# Altium integrated library JLC_25.IntLib: 165 symbols (part 2 of 2)
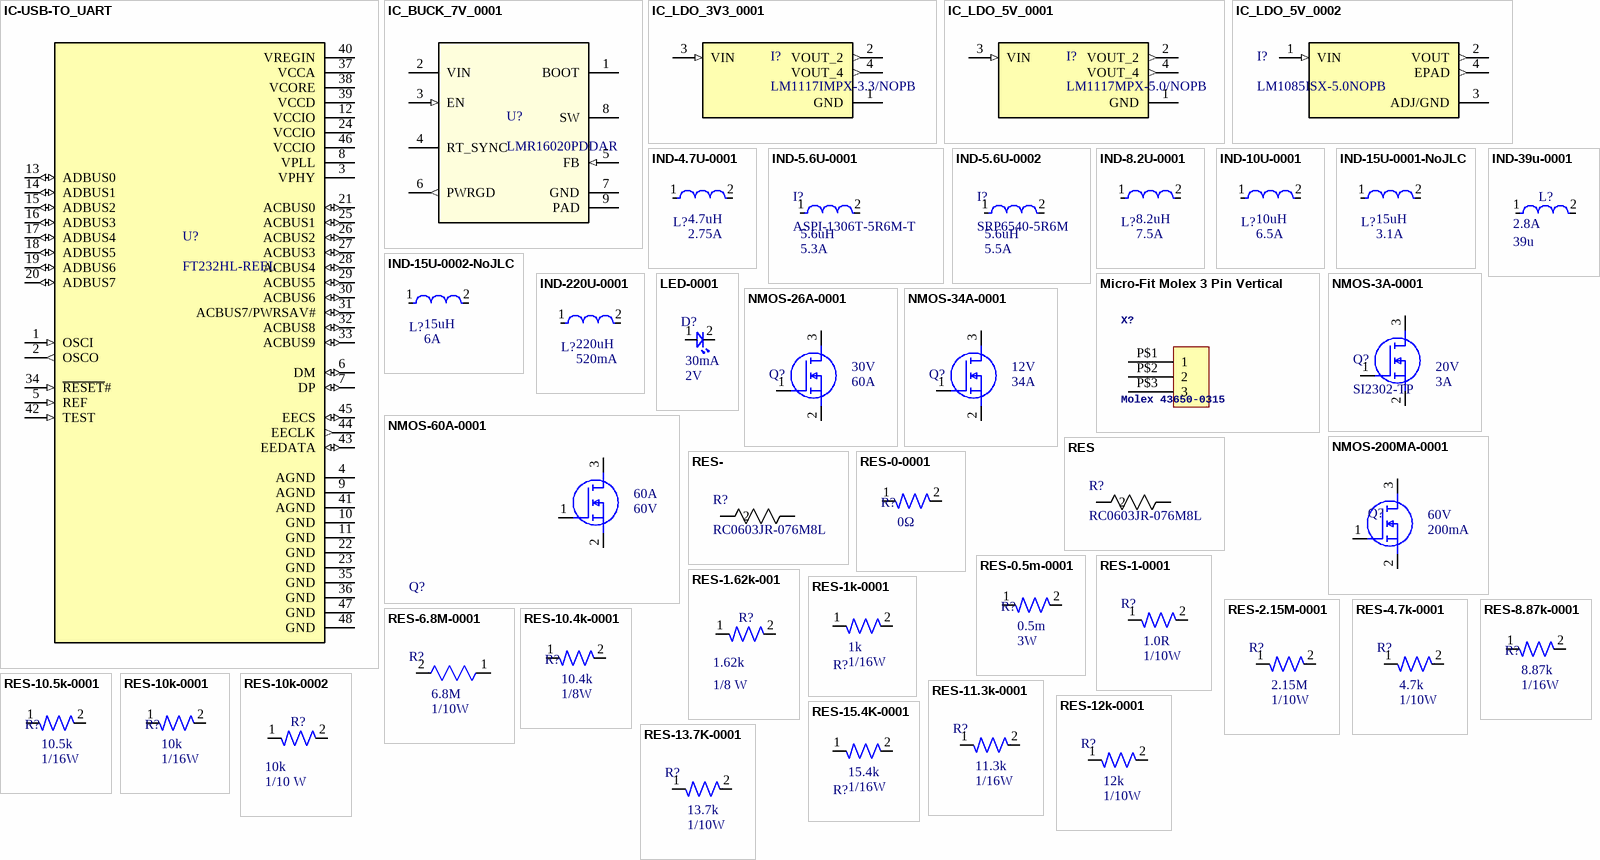
[diagram p5: symbols IC-USB-TO_UART to RES-15.4K-0001]

## RES-10.5k-0001
designator R?, comment Power: 1/16W  Resistance: 10.5k  (hidden comment: RC0402FR-0710K5L)
RES 10.5K OHM 1% 1/16W 0402; Tolerance: 1%; Size: 0402; ComponentLink1Description: Datasheet; ComponentLink1URL: https://www.yageo.com/upload/media/product/products/datasheet/rchip/PYu-RC_Group_51_RoHS_L_12.pdf
footprint RES-0402
pins: 1, 2
1 alternate drawing of the same symbol

## RES-10k-0001
designator R?, comment Resistance: 10k  Power: 1/16W  (hidden comment: RC0402FR-0710KL)
RES 10K OHM 1% 1/16W 0402; Tolerance: 1%; Size: 0402; ComponentLink1Description: Datasheet; ComponentLink1URL: https://www.yageo.com/upload/media/product/products/datasheet/rchip/PYu-RC_Group_51_RoHS_L_12.pdf
footprint RES-0402
pins: 1, 2
1 alternate drawing of the same symbol

## RES-10k-0002
designator R?, comment Power: 1/10 W  Resistance: 10k  (hidden comment: RC0603FR-0710KL)
10 kOhms ±1% 0.1W, 1/10W Chip Resistor 0603 (1608 Metric) Moisture Resistant Thick Film
footprint CAP-0603
pins: 1, 2

## RES-11.3k-0001
designator R?, comment Power: 1/16W  Resistance: 11.3k  (hidden comment: RC0402FR-0711K3L)
11.3 kOhms ±1% 0.063W, 1/16W Chip Resistor 0402 (1005 Metric) Moisture Resistant Thick Film; Tolerance: 1%; Size: 0603; ComponentLink1Description: Datasheet; ComponentLink1URL: https://www.yageo.com/upload/media/product/products/datasheet/rchip/PYu-RC_Group_51_RoHS_L_12.pdf
footprint RES-0402
pins: 1, 2

## RES-12k-0001
designator R?, comment Power: 1/10W  Resistance: 12k  (hidden comment: RC0603FR-0712KL)
RES 12K OHM 1% 1/10W 0603; Tolerance: 1%; Size: 0603; ComponentLink1Description: Datasheet; ComponentLink1URL: https://www.lcsc.com/datasheet/lcsc_datasheet_2304140030_YAGEO-RC0603FR-0712KL_C114659.pdf
footprint RES-0603
pins: 1, 2

## RES-13.7K-0001
designator R?, comment Power: 1/10W  Resistance: 13.7k  (hidden comment: RC0603FR-0713K7L)
RES 13.7K OHM 1% 1/10W 0603
footprint RES-0603
pins: 1, 2

## RES-15.4K-0001
designator R?, comment Power: 1/16W  Resistance: 15.4k  (hidden comment: AC0402FR-0715K4L)
RES 15.4kΩ ±1% 0.063W 0402; Tolerance: 1%; Size: 0402; ComponentLink1Description: Datasheet; ComponentLink1URL: https://www.yageo.com/upload/media/product/productsearch/datasheet/rchip/PYu-AC_51_RoHS_L_10.pdf
footprint RES-0402
pins: 1, 2

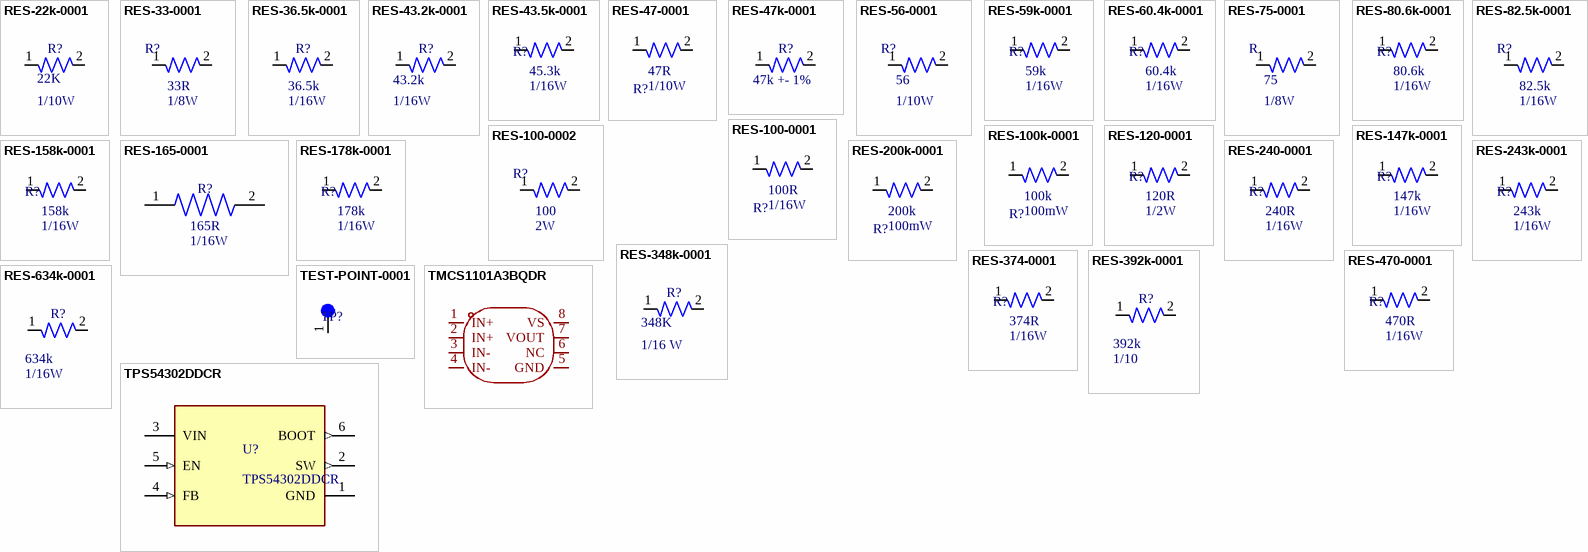
[diagram p4: symbols RES-22k-0001 to TPS54302DDCR]

## RES-22k-0001
designator R?, comment Power: 1/10W  Resistance: 22K  (hidden comment: RC0603FR-0722KL)
22 kOhms ±1% 0.1W, 1/10W Chip Resistor 0603 (1608 Metric) Moisture Resistant Thick Film; Parameter 1: *
footprint RES-0603
pins: 1, 2

## RES-33-0001
designator R?, comment Resistance: 33R  Power: 1/8W  (hidden comment: RC0402FR-7W33RL)
RES 33 OHM 1% 1/8W 0402; Tolerance: 1%; Size: 0402; ComponentLink1Description: Datasheet; ComponentLink1URL: https://www.yageo.com/upload/media/product/products/datasheet/rchip/PYu-RC_Group_51_RoHS_L_12.pdf
footprint RES-0402
pins: 1, 2

## RES-36.5k-0001
designator R?, comment Power: 1/16W  Resistance: 36.5k  (hidden comment: RC0402FR-0736K5L)
36.5 kOhms ±1% 0.063W, 1/16W Chip Resistor 0402 (1005 Metric) Moisture Resistant Thick Film; Parameter 1: *
footprint RES-0402
pins: 1, 2

## RES-43.2k-0001
designator R?, comment Parameter 1: 1/16W  Resistance: 43.2k  (hidden comment: RC0402FR-0743K2L)
43.2 kOhms ±1% 0.063W, 1/16W Chip Resistor 0402 (1005 Metric) Moisture Resistant Thick Film
footprint RES-0402
pins: 1, 2

## RES-43.5k-0001
designator R?, comment Power: 1/16W  Resistance: 45.3k  (hidden comment: RC0402FR-0745K3L)
RES 45.3K OHM 1% 1/16W 0402; Tolerance: 1%; Size: 0402; ComponentLink1Description: Datasheet; ComponentLink1URL: https://www.lcsc.com/datasheet/lcsc_datasheet_2304140030_YAGEO-RC0402FR-0745K3L_C137977.pdf
footprint RES-0402
pins: 1, 2
1 alternate drawing of the same symbol

## RES-47-0001
designator R?, comment Power: 1/10W  Resistance: 47R  (hidden comment: RC0603FR-0747RL)
RES 47 OHM 1% 1/10W 0603; Tolerance: 1%; Size: 0603; ComponentLink1Description: Datasheet; ComponentLink1URL: https://www.yageo.com/upload/media/product/products/datasheet/rchip/PYu-RC_Group_51_RoHS_L_12.pdf
footprint RES-0603
pins: 1, 2

## RES-47k-0001
designator R?, comment Resistance: 47k +- 1%  (hidden comment: TMP6431DECR)
PTC Thermistor 47 kOhms 0402 (1006 Metric)
footprint RES-0402
pins: 1, 2

## RES-56-0001
designator R?, comment Power: 1/10W  Resistance: 56  (hidden comment: RC0603FR-0756RL)
56 Ohms ±1% 0.1W, 1/10W Chip Resistor 0603 (1608 Metric) Moisture Resistant Thick Film; Manufacturer_Name: Yageo; Copyright: Copyright (C) 2025 Ultra Librarian. All rights reserved.; Manufacturer_Part_Number: RC0603FR-0756RL; ComponentLink1Description: Datasheet; ComponentLink1URL: https://www.yageogroup.com/content/datasheet/asset/file/PYU-RC_GROUP_51_ROHS_L
footprint RC0603N_YAG
pins: 1, 2

## RES-59k-0001
designator R?, comment Power: 1/16W  Resistance: 59k  (hidden comment: RC0402FR-0759KL)
RES 59K OHM 1% 1/16W 0402; Tolerance: 1%; Size: 0402; ComponentLink1Description: Datasheet; ComponentLink1URL: https://www.digikey.com/en/products/detail/yageo/RC0402FR-0759KL/2827634?s=N4IgTCBcDaIEoGEAMAWJYBicC0SDsArAJwDSAMiALoC%2BQA
footprint RES-0402
pins: 1, 2
1 alternate drawing of the same symbol

## RES-60.4k-0001
designator R?, comment Power: 1/16W  Resistance: 60.4k  (hidden comment: RC0402FR-0760K4L)
RES 60.4K OHM 1% 1/16W 0402; Tolerance: 1%; Size: 0402; ComponentLink1Description: Datasheet; ComponentLink1URL: https://www.yageo.com/upload/media/product/products/datasheet/rchip/PYu-RC_Group_51_RoHS_L_12.pdf
footprint RES-0402
pins: 1, 2
1 alternate drawing of the same symbol

## RES-75-0001
designator R, comment Power: 1/8W  Resistance: 75  (hidden comment: CRCW060375R0FKEA)
75 Ohms Â±1% 0.1W, 1/10W Chip Resistor 0603 _1608 Metric_ Automotive AEC-Q200 Thick Film; MF: Vishay Dale; MP: CRCW060375R0FKEA; Digi-Key_Purchase_URL: https://www.digikey.pk/product-detail/en/vishay-dale/CRCW060375R0FKEA/541-75.0HCT-ND/1179681?utm_source=snapeda&utm_medium=aggregator&utm_campaign=symbol; SnapEDA_Link: https://www.snapeda.com/parts/CRCW060375R0FKEA/Vishay%20Dale/view-part/214661/?ref=snap; Value: *; Package: 1508 Vishay; Digi-Key_Part_Number: 541-75.0HCT-ND; ComponentLink1Description: Datasheet; ComponentLink1URL: https://www.vishay.com/docs/20035/dcrcwe3.pdf
footprint RESC1508X50N
pins: 1, 2

## RES-80.6k-0001
designator R?, comment Resistance: 80.6k  Power: 1/16W  (hidden comment: RC0402FR-0780K6L)
80.6 kOhms ±1% 0.063W, 1/16W Chip Resistor 0402 (1005 Metric) Moisture Resistant Thick Film; Tolerance: 1%; Size: 0402; ComponentLink1Description: Datasheet; ComponentLink1URL: https://www.yageo.com/upload/media/product/products/datasheet/rchip/PYu-RC_Group_51_RoHS_L_12.pdf
footprint RES-0402
pins: 1, 2
1 alternate drawing of the same symbol

## RES-82.5k-0001
designator R?, comment Power: 1/16W  Resistance: 82.5k  (hidden comment: RC0402FR-0782K5L)
82.5 kOhms ±1% 0.063W, 1/16W Chip Resistor 0402 (1005 Metric) Moisture Resistant Thick Film; Tolerance: 1%; Size: 0603; ComponentLink1Description: Datasheet; ComponentLink1URL: https://www.lcsc.com/datasheet/lcsc_datasheet_2304140030_YAGEO-RC0603FR-0712KL_C114659.pdf
footprint RES-0402
pins: 1, 2

## RES-100-0001
designator R?, comment Power: 1/16W  Resistance: 100R  (hidden comment: RC0402FR-07100RL)
RES 100 OHM 1% 1/16W 0402; Tolerance: 1%; Size: 0402; ComponentLink1Description: Datasheet; ComponentLink1URL: https://www.yageo.com/upload/media/product/products/datasheet/rchip/PYu-RC_Group_51_RoHS_L_12.pdf
footprint RES-0402
pins: 1, 2

## RES-100-0002
designator R?, comment Resistance: 100  Power: 2W  (hidden comment: SR2512JK-7W100RL)
100 Ohms ±5% 2W Chip Resistor 2512 (6332 Metric) Automotive AEC-Q200, Pulse Withstanding Thick Film; MF: {'manufacturer': u'YAGEO'}; Package: None; Price: None; Value: *; MP: SR2512JK-7W100RL; Availability: Unavailable; ComponentLink1Description: Datasheet; ComponentLink1URL: https://www.yageogroup.com/content/Resource%20Library/Datasheet/PYU-SR_20105_ROHS_L.pdf
footprint RESC6331X65N
pins: 1, 2

## RES-100k-0001
designator R?, comment Power: 100mW  Resistance: 100k  (hidden comment: RC0603FR-07100KL)
RES SMD 100K OHM 1% 1/10W 0603; Tolerance: 1%; Size: 0603; ComponentLink1Description: Datasheet; ComponentLink1URL: https://www.yageo.com/upload/media/product/products/datasheet/rchip/PYu-RC_Group_51_RoHS_L_12.pdf
footprint RES-0603
pins: 1, 2

## RES-120-0001
designator R?, comment Power: 1/2W  Resistance: 120R  (hidden comment: RC1210FR-07120RL)
RES 120 OHM 1% 1/2W 1210; Tolerance: 1%; Size: 1210; ComponentLink1Description: Datasheet; ComponentLink1URL: https://www.yageo.com/upload/media/product/products/datasheet/rchip/PYu-RC_Group_51_RoHS_L_12.pdf
footprint RES-1210 (Chip Resistor, 2-Leads, Body 3.10x2.60mm, IPC High Density)
pins: 1, 2
1 alternate drawing of the same symbol

## RES-147k-0001
designator R?, comment Power: 1/16W  Resistance: 147k  (hidden comment: RC0402FR-07147KL)
RES 147K OHM 1% 1/16W 0402; Tolerance: 1%; Size: 0402; ComponentLink1Description: Datasheet; ComponentLink1URL: https://www.yageo.com/upload/media/product/products/datasheet/rchip/PYu-RC_Group_51_RoHS_L_12.pdf
footprint RES-0402
pins: 1, 2
1 alternate drawing of the same symbol

## RES-158k-0001
designator R?, comment Power: 1/16W  Resistance: 158k  (hidden comment: RC0402FR-07158KL)
RES 158K OHM 1% 1/16W 0402; Tolerance: 1%; Size: 0402; ComponentLink1Description: Datasheet; ComponentLink1URL: https://www.yageo.com/upload/media/product/products/datasheet/rchip/PYu-RC_Group_51_RoHS_L_12.pdf
footprint RES-0402
pins: 1, 2
1 alternate drawing of the same symbol

## RES-165-0001
designator R?, comment RC0402FR-07165RL  (value not drawn)
RES 165 OHM 1% 1/16W 0402; Package: None; Price: None; Value: *; MP: RC0402FR-07165RL; Availability: Unavailable
footprint RESC1005X40N
pins: 1, 2
text: 165R; 1/16W

## RES-178k-0001
designator R?, comment Power: 1/16W  Resistance: 178k  (hidden comment: RTT021783FTH)
62.5mW Thick Film Resistors 50V ±100ppm/℃ ±1% 178kΩ 0402 Chip Resistor - Surface Mount ROHS; Tolerance: 1%; Size: 0402; ComponentLink1Description: Datasheet; ComponentLink1URL: https://www.lcsc.com/datasheet/lcsc_datasheet_2304140030_RALEC-RTT021783FTH_C102842.pdf
footprint RES-0402
pins: 1, 2
1 alternate drawing of the same symbol

## RES-200k-0001
designator R?, comment Power: 100mW  Resistance: 200k  (hidden comment: RC0603FR-07200KL)
RES SMD 200K OHM 1% 1/10W 0603; Tolerance: 1%; Size: 0603; ComponentLink1Description: Datasheet; ComponentLink1URL: https://www.yageo.com/upload/media/product/products/datasheet/rchip/PYu-RC_Group_51_RoHS_L_12.pdf
footprint RES-0603
pins: 1, 2

## RES-240-0001
designator R?, comment Resistance: 240R  Power: 1/16W  (hidden comment: RC0402FR-07240RL)
240R 0.063W 1% 0402 (1005 Metric)  SMD; Tolerance: 1%; Size: 0402; ComponentLink1Description: Datasheet; ComponentLink1URL: https://www.yageo.com/upload/media/product/products/datasheet/rchip/PYu-RC_Group_51_RoHS_L_12.pdf
footprint RES-0402
pins: 1, 2
1 alternate drawing of the same symbol

## RES-243k-0001
designator R?, comment Resistance: 243k  Power: 1/16W  (hidden comment: RC0402FR-07243KL)
243 kOhms ±1% 0.063W, 1/16W Chip Resistor 0402 (1005 Metric) Moisture Resistant Thick Film; Tolerance: 1%; Size: 0402; ComponentLink1Description: Datasheet; ComponentLink1URL: https://www.yageo.com/upload/media/product/products/datasheet/rchip/PYu-RC_Group_51_RoHS_L_12.pdf
footprint RES-0402
pins: 1, 2
1 alternate drawing of the same symbol

## RES-348k-0001
designator R?, comment Power: 1/16 W  Resistance: 348K  (hidden comment: RC0402FR-07348KL)
348 kOhms ±1% 0.063W, 1/16W Chip Resistor 0402 (1005 Metric) Moisture Resistant Thick Film
footprint RES-0402
pins: 1, 2

## RES-374-0001
designator R?, comment Power: 1/16W  Resistance: 374R  (hidden comment: RC0402FR-07374RL)
RES 374 OHM 1% 1/16W 0402; Tolerance: 1%; Size: 0402; ComponentLink1Description: Datasheet; ComponentLink1URL: https://www.yageo.com/upload/media/product/products/datasheet/rchip/PYu-RC_Group_51_RoHS_L_12.pdf
footprint RES-0402
pins: 1, 2
1 alternate drawing of the same symbol

## RES-392k-0001
designator R?, comment Power: 1/10  Resistance: 392k  (hidden comment: RC0603FR-07392KL)
392 kOhms ±1% 0.1W, 1/10W Chip Resistor 0603 (1608 Metric) Moisture Resistant Thick Film
footprint RES-0603
pins: 1, 2

## RES-470-0001
designator R?, comment Power: 1/16W  Resistance: 470R  (hidden comment: RC0402FR-07470RL)
RES 470 OHM 1% 1/16W 0402; Tolerance: 1%; Size: 0402; ComponentLink1Description: Datasheet; ComponentLink1URL: https://www.yageo.com/upload/media/product/products/datasheet/rchip/PYu-RC_Group_51_RoHS_L_12.pdf
footprint RES-0402
pins: 1, 2
1 alternate drawing of the same symbol

## RES-634k-0001
designator R?, comment Power: 1/16W  Resistance: 634k  (hidden comment: RC0402FR-07634KL)
634 kOhms ±1% 0.063W, 1/16W Chip Resistor 0402 (1005 Metric) Moisture Resistant Thick Film
footprint RES-0402
pins: 1, 2

## TEST-POINT-0001
designator TP?, comment 5003  (value not drawn)
Oranange PC Test Point, Miniature Phoisphor Bronze Silver Plating Through Hole Mounting Type
footprint TEST-POINT-0001 (2024 miniature test point)
pins: 1 0

## TMCS1101A3BQDR
designator U?  (value not drawn)
Manufacturer: TI(德州仪器); Add into BOM: yes; Current Range: ±11.25A; Supply Voltage: 3V~5.5V; Sensitivity: 200mV/A; Symbol: TMCS1101A3BQDR; Device: TMCS1101A3BQDR; LCSC Part Name: TMCS1101A3BQDR; Supplier Part: C2871609; Manufacturer Part: TMCS1101A3BQDR; Supplier Footprint: SOIC-8; JLCPCB Part Class: Extended Part; Datasheet: https://www.ti.com/cn/lit/gpn/tmcs1101; Supplier: LCSC; Convert to PCB: yes; Operating Temperature: -40℃~+125℃
footprint SOIC-8_L4.9-W3.9-P1.27-LS6.0-BL
pins: 1 IN+, 2 IN+, 3 IN-, 4 IN-, 5 GND, 6 NC, 7 VOUT, 8 VS

## TPS54302DDCR
designator U?
4.5-V to 28-V Input, 3-A Output, EMI Friendly Synchronous Step-Down Converter; MF: Texas Instruments; Package: SOT-23-THN-6 Texas Instruments; Price: None; Check_prices: https://www.snapeda.com/parts/TPS54302DDCR/Texas+Instruments/view-part/?ref=eda; Value: *; SnapEDA_Link: https://www.snapeda.com/parts/TPS54302DDCR/Texas+Instruments/view-part/?ref=snap; MP: TPS54302DDCR; Availability: In Stock; Purchase-URL: https://pricing.snapeda.com/search?q=TPS54302DDCR&ref=eda
footprint SOT95P280X110-6N
pins: 1 GND (power), 2 SW (out), 3 VIN (power), 4 FB (in), 5 EN (in), 6 BOOT (out)